# EAGLE library part ?M09B-SRSS-TB (library con-jst)
Disconnectable Crimp style connector, 1.0mm pitch 9 contacts
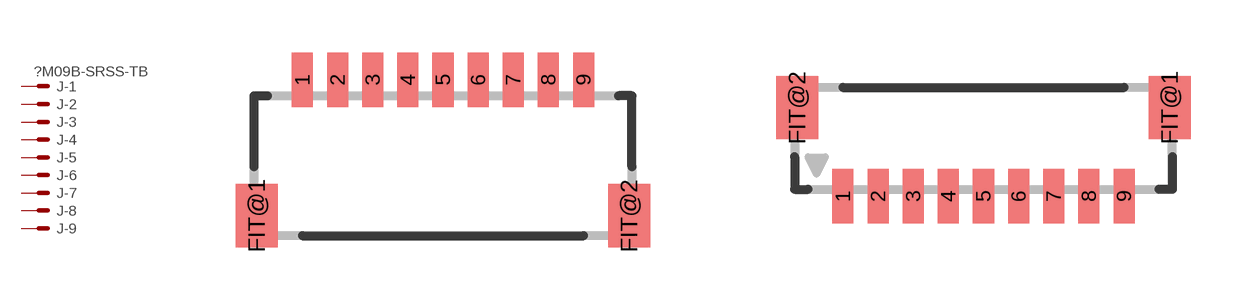
[diagram p25: symbol with the pads of SM09B-SRSS-TB; footprints SM09B-SRSS-TB, BM09B-SRSS-TB]

Designator prefix J; gates -1=KV -2=K -3=K -4=K -5=K -6=K -7=K -8=K -9=K

## SM09B-SRSS-TB  [SM09B-SRSS-TB]
1  -1:S  pas
2  -2:S  pas
3  -3:S  pas
4  -4:S  pas
5  -5:S  pas
6  -6:S  pas
7  -7:S  pas
8  -8:S  pas
9  -9:S  pas

## BM09B-SRSS-TB  [BM09B-SRSS-TB]
Pads as for SM09B-SRSS-TB

## Footprint SM09B-SRSS-TB (pad centres in mm)
Shrouded Header, side entry type
smd 0.6 x 1.55: 1 -4,2.975; 2 -3,2.975; 3 -2,2.975; 4 -1,2.975; 5 0,2.975; 6 1,2.975; 7 2,2.975; 8 3,2.975; 9 4,2.975
smd 1.2 x 1.8: FIT@1 -5.3,-0.9; FIT@2 5.3,-0.9

## Footprint BM09B-SRSS-TB (pad centres in mm)
Shrouded Header, top entry type
smd 0.6 x 1.55: 1 -4,-1.625; 2 -3,-1.625; 3 -2,-1.625; 4 -1,-1.625; 5 0,-1.625; 6 1,-1.625; 7 2,-1.625; 8 3,-1.625; 9 4,-1.625
smd 1.2 x 1.8: FIT@1 5.3,0.9; FIT@2 -5.3,0.9